# Altium schematic symbol library LM555 Timer.SchLib: 1 symbol
Pins are listed as number, name and electrical type; pins without a type are passive.

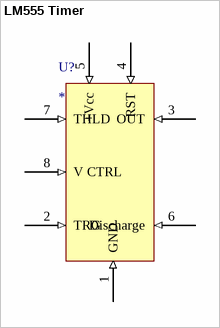
[diagram p0: symbol LM555 Timer]

## LM555 Timer
designator U?
pins: 1 GND (in), 2 TRG (in), 3 OUT (in), 4 RST (in), 5 +Vcc (in), 6 Discharge (in), 7 THLD (in), 8 V CTRL (in)